# EAGLE library part LIDAR_VL53L0X_ATK_VERT (library Z)
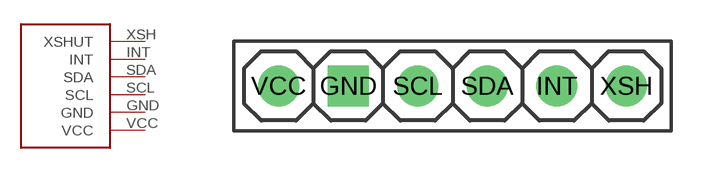
[diagram p3: symbol with the pads of LIDAR_VL53L0X_ATK_VERT; footprint LIDAR_VL53L0X_ATK_VERT]

Designator prefix -

## LIDAR_VL53L0X_ATK_VERT  [LIDAR_VL53L0X_ATK_VERT]
GND  GND
INT  INT
SCL  SCL
SDA  SDA
VCC  VCC
XSH  XSHUT

## Footprint LIDAR_VL53L0X_ATK_VERT (pad centres in mm)
drill 1 square: GND -3.81,0
drill 1: INT 3.81,0; SCL -1.27,0; SDA 1.27,0; VCC -6.35,0; XSH 6.35,0